# Altium schematic symbol library ADA4940-2ACPZ-RL.SchLib: 1 symbol
Pins are listed as number, name and electrical type; pins without a type are passive.

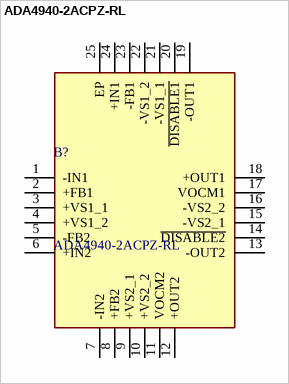
[diagram p0: symbol ADA4940-2ACPZ-RL]

## ADA4940-2ACPZ-RL
designator B?
Differential Amplifiers Sub 10M W ADC Driver for PULSAR Family; Manufacturer_Name: Analog Devices; Geometry.Height: 0.8mm; Mouser Part Number: 584-ADA4940-2ACPZ-R; Mouser Price/Stock: https://www.mouser.co.uk/ProductDetail/Analog-Devices/ADA4940-2ACPZ-RL?qs=BpaRKvA4VqHPFnyO4tWbXA%3D%3D; Manufacturer_Part_Number: ADA4940-2ACPZ-RL; Datasheet Link: https://www.mouser.in/datasheet/2/609/ADA4940-1_4940-2-878284.pdf
footprint QFN50P400X400X80-25N-D
pins: 1 -IN1, 2 +FB1, 3 +VS1_1, 4 +VS1_2, 5 -FB2, 6 +IN2, 7 -IN2, 8 +FB2, 9 +VS2_1, 10 +VS2_2, 11 VOCM2, 12 +OUT2, 13 -OUT2, 14 ~{DISABLE2}, 15 -VS2_1, 16 -VS2_2, 17 VOCM1, 18 +OUT1, 19 -OUT1, 20 ~{DISABLE1}, 21 -VS1_1, 22 -VS1_2, 23 -FB1, 24 +IN1, 25 EP